# EAGLE library part BOURNS_HCT_SM_XXXXX_XXX (library own_parts2)
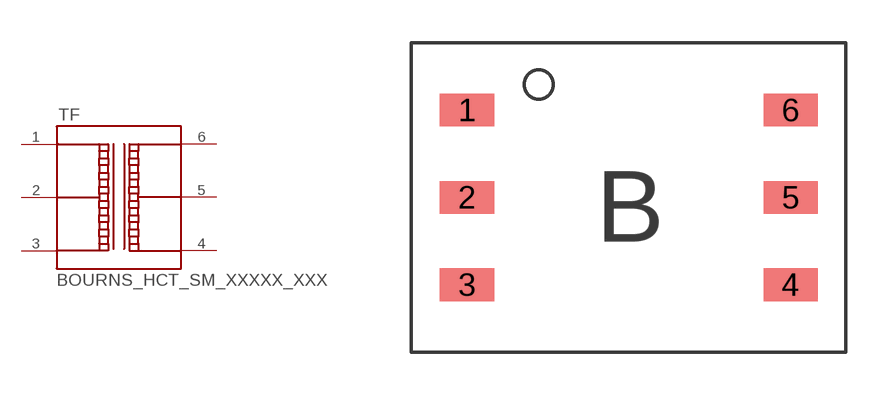
[diagram p29: symbol with the pads of BOURNS_HCT; footprint BOURNS_HCT]

Designator prefix TF

## BOURNS_HCT_SM_XXXXX_XXX  [BOURNS_HCT]
1  I/O1
2  I/O2
3  I/O3
4  I/O4
5  I/O5
6  I/O6

## Footprint BOURNS_HCT (pad centres in mm)
smd 1.9 x 1.14: 1 0,6.1; 2 0,3.05; 3 0,0; 4 11.31,0; 5 11.31,3.05; 6 11.31,6.1